# Altium footprint library Pushbutton SMD.PcbLib: 1 footprints
Each footprint in its own frame and in the unit in brackets; x right, y up, seen from the top. Pads: shape width x height; smd on the part's side, far side on the other; paste and mask are expansions set on the pad; w line width, h text height; cw(c..) or ccw(c..) is an arc to the next point about the centre after c.
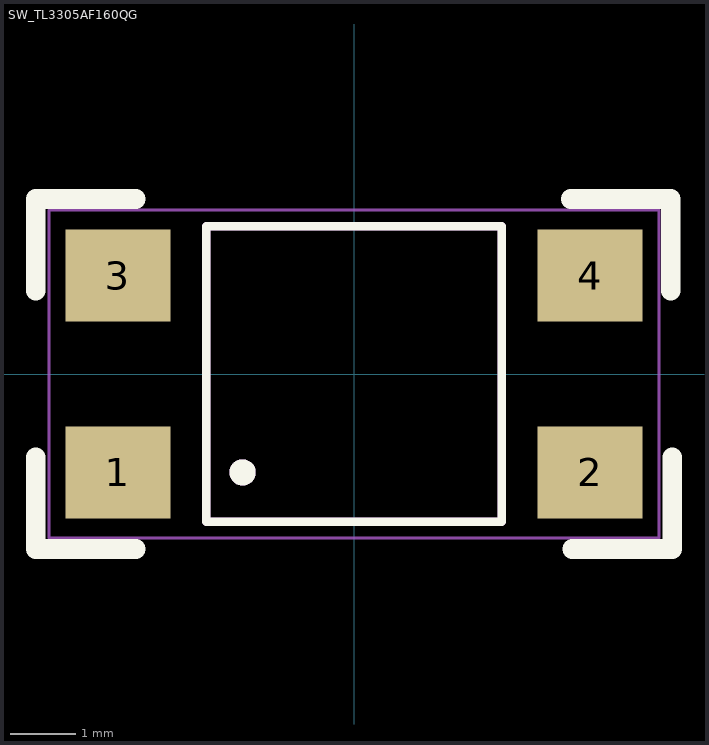
[diagram p0: the footprint, top view; thin cyan lines are the x and y axes]

## SW_TL3305AF160QG [mm]
height 3.8
pads (4):
  rect 1.6x1.4 smd: 1(-3.6,-1.5) 2(3.6,-1.5) 3(-3.6,1.5) 4(3.6,1.5)
Top Overlay:
  circle w0.2: c-1.698,-1.5 r0.1
  lines w0.127: -2.25,-2.25 -2.25,2.25 2.25,2.25 2.25,-2.25 -2.25,-2.25
  lines w0.3: -4.85,-2.667 -4.85,-1.27 ; -4.85,1.27 -4.85,2.667 ; -4.826,-2.667 -3.326,-2.667 ; -4.826,2.667 -3.326,2.667 ; 3.302,2.667 4.802,2.667 ; 3.326,-2.667 4.826,-2.667 ; 4.826,1.27 4.826,2.667 ; 4.85,-2.667 4.85,-1.27
Mechanical 13:
  circle w0.2: c-1.698,-1.5 r0.1
  lines w0.127: -2.25,-2.25 -2.25,2.25 2.25,2.25 2.25,-2.25 -2.25,-2.25
Mechanical 15:
  lines w0.05: -4.65,-2.5 -4.65,2.5 4.65,2.5 4.65,-2.5 -4.65,-2.5
3D body "step_temp.STEP": height 3.8, standoff 0, extent -3.6,-2.25 3.9,2.25